# EAGLE library part BLUETOOTH_HC05 (library BLUETOOTH_HC_05-06_Module)
HC 05 /06 Bluetooth Module Created by Aadesh Borate Features : Input voltage : 5V Operating voltage : 5V Contineous output current : 30 mA Range : 100 metre Serial communication Follows IEEE 802.15.1 standardized protocol Uses Frequency-Hopping Spread spectrum (FHSS) Buy this module at Robu.in <https://robu.in/product/hc-05-6pin-bluetooth-module-with-button/>
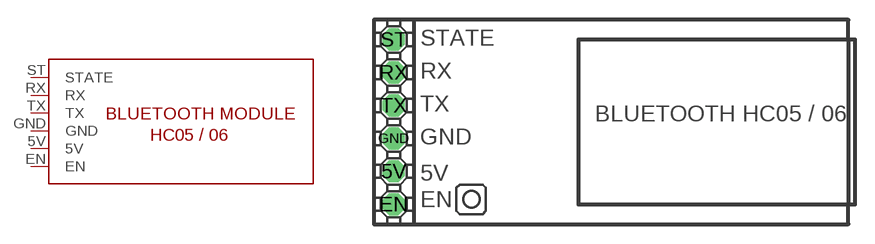
[diagram p0: symbol with the pads of BLUETOOTH_HC05; footprint BLUETOOTH_HC05]

Designator prefix -

## BLUETOOTH_HC05  [BLUETOOTH_HC05]
5V  5V
EN  EN
GND  GND
RX  RX
ST  STATE
TX  TX

## Footprint BLUETOOTH_HC05 (pad centres in mm)
HC 05 /06 Bluetooth Module Created by Aadesh Borate Features : Input voltage : 5V Operating voltage : 5V Contineous output current : 30 mA Range : 100 metre Serial communication Follows IEEE 802.15.1 standardized protocol Uses Frequency-Hopping Spread spectrum (FHSS) Buy this module at Robu.in <https://robu.in/product/hc-05-6pin-bluetooth-module-with-button/>
drill 1.143 octagon: 5V -9.906,-4.064; EN -9.906,-6.604; GND -9.906,-1.524; RX -9.906,3.556; ST -9.906,6.096; TX -9.906,1.016